# Altium footprint library Activity_Recognition_Board_v1.0_PCB.PcbLib: 26 footprints (part 2 of 2)
Each footprint in its own frame and in the unit in brackets; x right, y up, seen from the top. Pads: shape width x height; smd on the part's side, far side on the other; paste and mask are expansions set on the pad; w line width, h text height; cw(c..) or ccw(c..) is an arc to the next point about the centre after c.
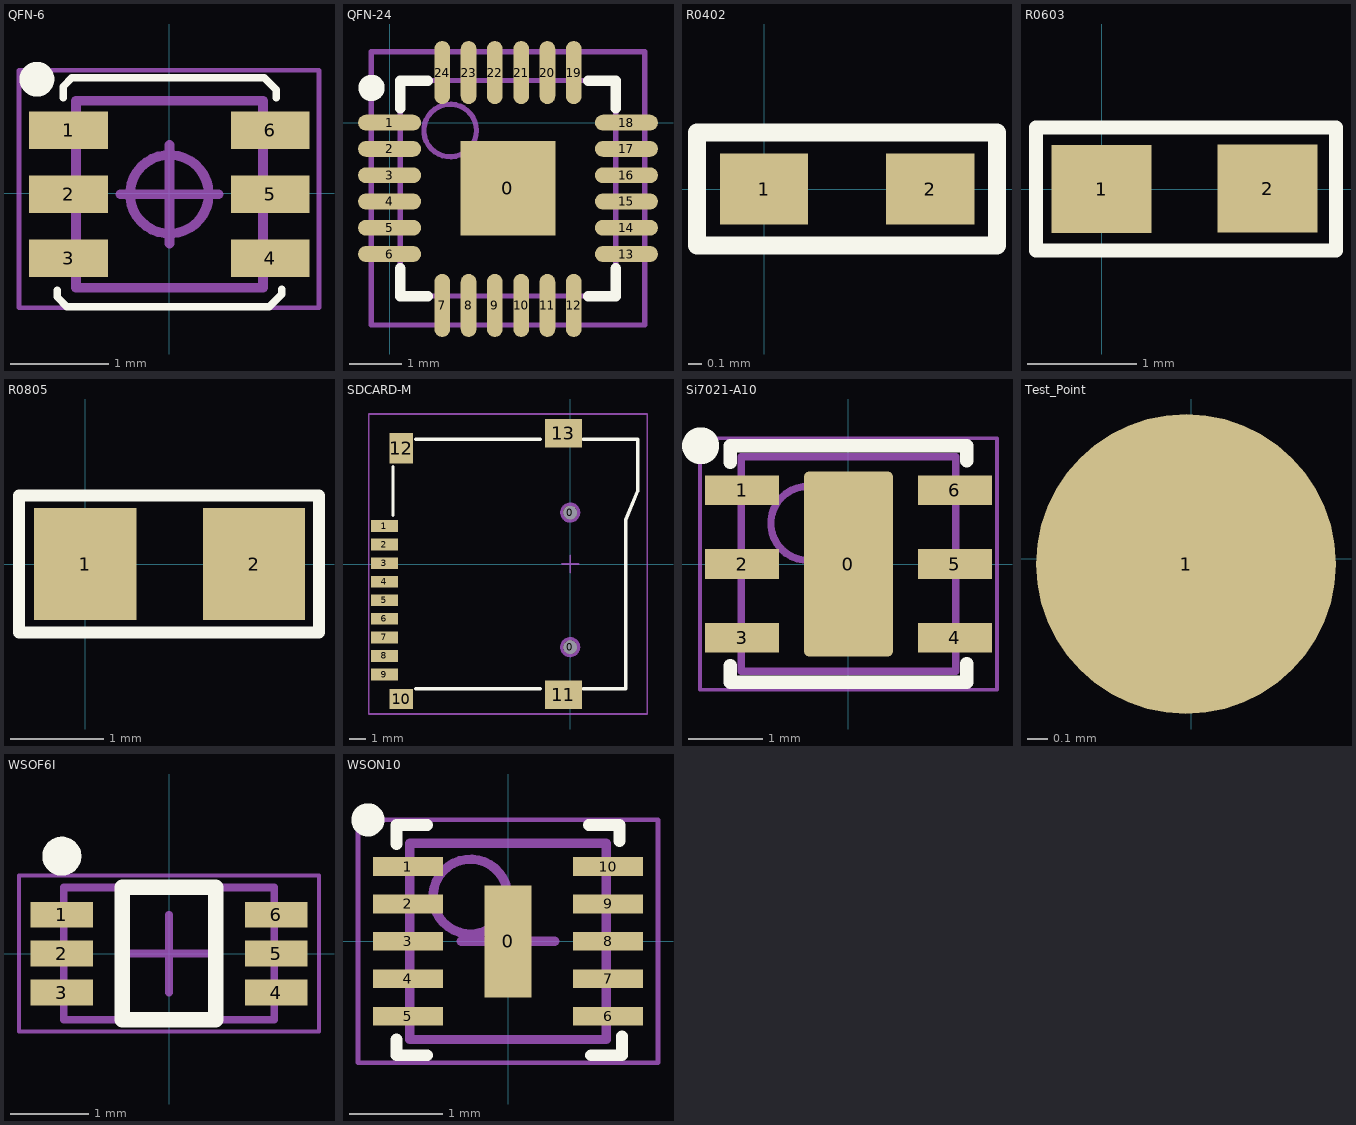
[diagram p1: the footprints below, top view; thin cyan lines are the x and y axes]

## QFN-6 [mm] "SON, 6-Leads, Body 2.00x2.00mm, Pitch 0.65mm, Thermal Pad 1.60x0.74mm, IPC Medium Density"
height 0.8
pads (6):
  rect 0.8x0.381 smd: 1(-1.024,0.64) 2(-1.024,-0.01) 3(-1.024,-0.66) 4(1.024,-0.66) 5(1.024,-0.01) 6(1.024,0.64)
Top Overlay:
  circle w0.254: c-1.346,1.158 r0.05
  lines w0.076: -1.14,-0.986 -1.14,-1.054 -1.041,-1.153 1.016,-1.153 1.143,-1.026 1.143,-0.975 ; -1.079,0.97 -1.079,1.084 -0.991,1.173 0.965,1.173 1.087,1.051 1.087,0.968
Mechanical 13:
  circle w0.1: c0,-0.01 r0.4
  lines w0.1: -0.95,-0.96 0.95,-0.96 0.95,0.94 -0.95,0.94 -0.95,-0.96
Mechanical 15:
  lines w0.05: -1.528,-1.163 1.52,-1.163 1.52,1.25 -1.528,1.25 -1.528,-1.163
  lines w0.1: -0.5,-0.01 0.5,-0.01 ; 0,-0.51 0,0.49
3D body: height 0.8, standoff 0.05, extent -0.95,-0.96 0.95,0.94

## QFN-24 [mm]
pads (25):
  rect 1.8x1.8 smd: 0(2.253,-1.25)
  oval 1.2x0.3 smd: 1(0,0) 2(0,-0.5) 3(0,-1) 4(0,-1.5) 5(0,-2) 6(0,-2.5) 13(4.506,-2.5) 14(4.506,-2) 15(4.506,-1.5) 16(4.506,-1) 17(4.506,-0.5) 18(4.506,0)
  oval 0.3x1.2 smd: 7(1.003,-3.478) 8(1.503,-3.478) 9(2.003,-3.478) 10(2.503,-3.478) 11(3.003,-3.478) 12(3.503,-3.478) 19(3.503,0.952) 20(3.003,0.952) 21(2.503,0.952) 22(2.003,0.952) 23(1.503,0.952) 24(1.003,0.952)
Top Overlay:
  circle w0.25: c-0.342,0.66 r0.125
  lines w0.2: 0.203,-2.775 0.203,-3.3 0.728,-3.3 ; 0.203,0.275 0.203,0.8 0.728,0.8 ; 3.778,-3.3 4.303,-3.3 4.303,-2.775 ; 3.778,0.8 4.303,0.8 4.303,0.275
Mechanical 13:
  circle w0.1: c1.153,-0.15 r0.5
  lines w0.1: 0.203,-3.3 0.203,0.8 4.303,0.8 4.303,-3.3 0.203,-3.3
Mechanical 15:
  lines w0.1: 1.753,-1.25 2.753,-1.25 ; 2.253,-1.75 2.253,-0.75 ; -0.347,-3.85 -0.347,1.35 4.853,1.35 4.853,-3.85 -0.347,-3.85
3D body: height 0.9, standoff 0.02, extent 0.203,-3.3 4.303,0.8

## R0402 [mil]
pads (2):
  rect 25x20 smd: 1(0,0) 2(47.1,0)
Top Overlay:
  lines w5: -19,-16 66,-16 66,16 -19,16 -19,-16
3D body: height 31.5, standoff 1.97, extent -0.5,-11 50,11

## R0603 [mm]
pads (2):
  rect 0.91x0.8 smd: 1(0,0) 2(1.511,0.004)
Top Overlay:
  lines w0.127: -0.597,-0.559 -0.597,0.559 2.134,0.559 2.134,-0.559 -0.597,-0.559
3D body: height 0.8, standoff 0.05, extent -0.038,-0.394 1.61,0.404

## R0805 [mm]
pads (2):
  rect 1.1x1.2 smd: 1(0,0) 2(1.816,0)
Top Overlay:
  lines w0.127: -0.711,-0.737 -0.711,0.737 2.515,0.737 2.515,-0.737 -0.711,-0.737
3D body: height 0.8, standoff 0.05, extent -0.038,-0.602 1.816,0.607

## SDCARD-M [mm] "TF卡"
height 1.5
pads (15):
  round 0.8 hole 0.8: 0(0,-4.93) 0(0,3.05)
  rect 1.6x0.7 smd: 1(-11.008,2.25) 2(-11.008,1.15) 3(-11.008,0.05) 4(-11.008,-1.05) 5(-11.008,-2.15) 6(-11.008,-3.25) 7(-11.008,-4.35) 8(-11.008,-5.45) 9(-11.008,-6.55)
  rect 1.4x1.2 smd: 10(-10,-8.004)
  rect 2.2x1.7 smd: 11(-0.4,-7.75) 13(-0.4,7.75)
  rect 1.4x1.8 smd: 12(-10,6.85)
Top Overlay:
  lines w0.2: -10.5,2.88 -10.5,5.756 ; -9.144,-7.4 -1.778,-7.4 ; -9.144,7.4 -1.778,7.4 ; 0.762,-7.4 3.3,-7.4 3.3,1.016 ; 0.762,7.4 4,7.4 4,4.318 3.3,2.628 3.3,0.762
Mechanical 1:
  circle w0.2: c0,3.05 r0.5
  circle w0.2: c0,-4.93 r0.5
Mechanical 15:
  lines w0.1: -0.5,0 0.5,0 ; 0,-0.5 0,0.5 ; -11.938,-8.89 -11.938,8.89 4.572,8.89 4.572,-8.89 -11.938,-8.89
3D body: height 0.9, standoff 0.02, extent -10.333,-7.259 3.83,7.262

## Si7021-A10 [mm] "SON, 6-Leads, Body 2.85x2.85mm, Pitch 1.00mm, Thermal Pad 2.40x1.48mm, IPC Medium Density"
height 1.2
pads (7):
  rrect10% 1.2x2.5 smd: 0(0,0)
  rect 1x0.4 smd: 1(-1.44,1) 2(-1.44,0) 3(-1.44,-1) 4(1.44,-1) 5(1.44,0) 6(1.44,1)
Top Overlay:
  circle w0.4: c-2,1.6 r0.05
  lines w0.178: -1.6,-1.372 -1.6,-1.6 1.6,-1.6 1.6,-1.346 ; -1.6,1.372 -1.6,1.6 1.6,1.6 1.6,1.397
Mechanical 13:
  circle w0.1: c-0.55,0.55 r0.5
  lines w0.1: -1.45,-1.45 1.45,-1.45 1.45,1.45 -1.45,1.45 -1.45,-1.45
Mechanical 15:
  lines w0.05: -2.01,-1.7 2.01,-1.7 2.01,1.7 -2.01,1.7 -2.01,-1.7
  lines w0.1: -0.5,0 0.5,0 ; 0,-0.5 0,0.5
3D body: height 1.2, standoff 0.05, extent -1.45,-1.45 1.45,1.45

## Test_Point [mm]
pads (1):
  round 1.5 smd: 1(-0.025,-0.025)

## WSOF6I [mm] "SOTFL, 6-Leads, Body 1.60x3.00mm, Pitch 0.50mm, IPC Medium Density"
height 0.75
pads (6):
  rect 0.8x0.33 smd: 1(-1.375,0.5) 2(-1.375,0) 3(-1.375,-0.5) 4(1.375,-0.5) 5(1.375,0) 6(1.375,0.5)
Top Overlay:
  circle w0.25: c-1.375,1.25 r0.125
  lines w0.2: -0.6,-0.85 0.6,-0.85 0.6,0.85 -0.6,0.85 -0.6,-0.85
Mechanical 13:
  lines w0.1: -1.35,-0.85 -1.35,0.85 1.35,0.85 1.35,-0.85 -1.35,-0.85
Mechanical 15:
  lines w0.05: -1.925,-1 -1.925,1 1.925,1 1.925,-1 -1.925,-1
  lines w0.1: -0.5,0 0.5,0 ; 0,-0.5 0,0.5
3D body: height 0.75, standoff 0, extent -1.35,-0.85 1.35,0.85

## WSON10 [mm]
pads (11):
  rect 0.5x1.2 smd: 0(0,0)
  rect 0.75x0.2 smd: 1(-1.072,0.8) 2(-1.072,0.4) 3(-1.072,0) 4(-1.072,-0.4) 5(-1.072,-0.8) 6(1.072,-0.8) 7(1.072,-0.4) 8(1.072,0) 9(1.072,0.4) 10(1.072,0.8)
Top Overlay:
  circle w0.254: c-1.499,1.3 r0.05
  lines w0.127: -1.194,-1.05 -1.194,-1.219 -0.864,-1.219 ; -1.194,1.041 -1.194,1.245 -0.864,1.245 ; 0.864,1.245 1.194,1.245 1.194,1.075 ; 0.889,-1.219 1.219,-1.219 1.219,-1.016
Mechanical 13:
  circle w0.1: c-0.402,0.479 r0.4
  lines w0.1: -1.05,-1.05 -1.05,1.05 1.05,1.05 1.05,-1.05 -1.05,-1.05
Mechanical 15:
  lines w0.05: -1.605,-1.3 -1.605,1.3 1.605,1.3 1.605,-1.3 -1.605,-1.3
  lines w0.1: -0.5,0 0.5,0 ; 0,-0.5 0,0.5
3D body: height 0.8, standoff 0.7, extent -1.05,-1.05 1.05,1.05